# EAGLE library part G6C-2117P (library df4iah_relay)
RELAY 1 x norm. open, 1x norm. closed, 10 A/240 V, Omron
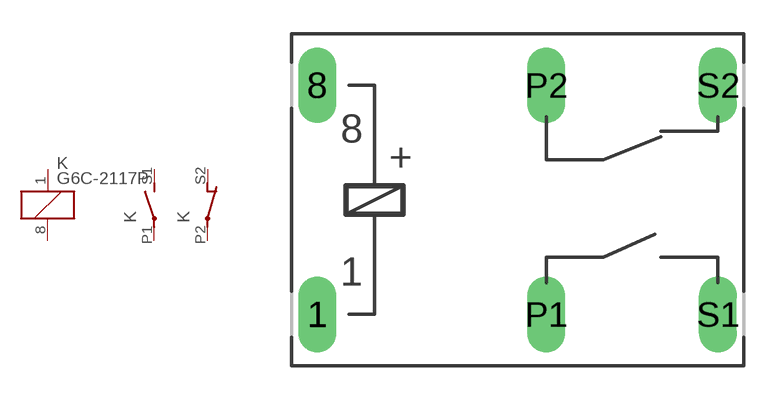
[diagram p8: symbol with the pads of G6C-2117P; footprint G6C-2117P]

Designator prefix K; gates 1=K 2=S 3=O

## G6C-2117P (OC_FARNELL: unknown; OC_NEWARK: unknown)  [G6C-2117P]
1  1:1  pas
8  1:2  pas
P1  2:P  pas
P2  3:P  pas
S1  2:S  pas
S2  3:O  pas

## Footprint G6C-2117P (pad centres in mm)
RELAY 1 x norm. open, 1x norm. closed, 10 A/240 V, Omron
drill 1.118 long: 1 -8.89,-5.08; 8 -8.89,5.08; P1 1.27,-5.08; P2 1.27,5.08; S1 8.89,-5.08; S2 8.89,5.08